# Altium schematic symbol library SN74LV1T34DCKR.SchLib: 1 symbol
Pins are listed as number, name and electrical type; pins without a type are passive.

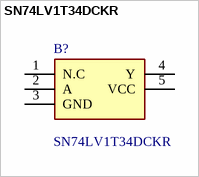
[diagram p0: symbol SN74LV1T34DCKR]

## SN74LV1T34DCKR
designator B?
Single Power Supply BUFFER Logic Level Shifter (no enable); Manufacturer_Name: Texas Instruments; Geometry.Height: 1.1mm; Mouser Part Number: 595-SN74LV1T34DCKR; Mouser Price/Stock: https://www.mouser.co.uk/ProductDetail/Texas-Instruments/SN74LV1T34DCKR?qs=8sOby8ZxZLGjFfifrzzjkQ%3D%3D; Manufacturer_Part_Number: SN74LV1T34DCKR; Datasheet Link: http://www.ti.com/lit/gpn/sn74lv1t34
footprint SOT65P210X110-5N
pins: 1 N.C, 2 A, 3 GND, 4 Y, 5 VCC